# EAGLE library part LTC3230 (library PowerProducts)
LT-Spice library generated with : ltspice.ulp from: D:/Program Files (x86)/LTC/LTspiceIV/lib/sym/PowerProducts/LTC3240-2.5*.asy at 07.10.2012 17:58:14
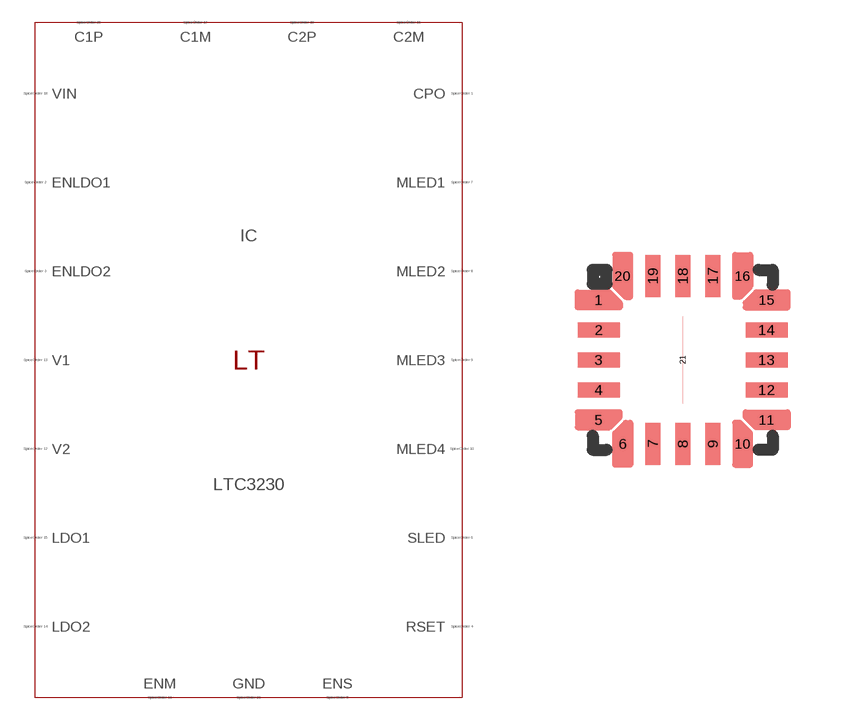
[diagram p149: symbol with the pads of QFN20(UD); footprint QFN20(UD)]

Designator prefix IC

## LTC3230 (SPICEMODEL: LTC3230.sub; SPICEPREFIX: X; VALUE2: LTC3230)  [QFN20(UD)]
1  CPO  pas
2  ENLDO1  pas
3  ENLDO2  pas
4  RSET  pas
5  ENS  pas
6  SLED  pas
7  MLED1  pas
8  MLED2  pas
9  MLED3  pas
10  MLED4  pas
11  ENM  pas
12  V2  pas
13  V1  pas
14  LDO2  pas
15  LDO1  pas
16  C2M  pas
17  C1M  pas
18  VIN  pas
19  C2P  pas
20  C1P  pas
21  GND  pas

## Footprint QFN20(UD) (pad centres in mm)
Package generated from: QFN20(UD).asc (!PADS-POWERPCB-V5.0-BASIC! DESIGN DATABASE ASCII FILE 1.0) with :import-pads-powerpcb-v5.ulp Version 1.0.1 at 04.10.2012 14:11:23
smd 0.375 x 0.375: 1 -2.1,1.5; 5 -2.1,-1.5; 6 -1.5,-2.1; 10 1.5,-2.1; 11 2.1,-1.5; 15 2.1,1.5; 16 1.5,2.1; 20 -1.5,2.1
smd 1.05 x 0.375: 2 -2.1,0.75; 3 -2.1,0; 4 -2.1,-0.75; 12 2.1,-0.75; 13 2.1,0; 14 2.1,0.75
smd 0.375 x 1.05: 7 -0.75,-2.1; 8 0,-2.1; 9 0.75,-2.1; 17 0.75,2.1; 18 0,2.1; 19 -0.75,2.1
smd 0 x 2.175: 21 0,0